# EAGLE library part 61303611121 (library Wurth_Elektronik_Electromechanic_Board_to_Board_Connectors_rev16a)
WR_PHD 2.54mm Pin Header, 36 Pins =>Code : Con_BTB_PHD_2.54_1_THT_61303611121 <http://katalog.we-online.de/media/images/eican/Con_BTB_PHD_2.54_1_THT_6130xx11121_pf2.jpg> Details see: http://katalog.we-online.de/en/em/613_0xx_111_21 Created 2014-05-29, Karrer Zheng 2014 (C) Würth Elektronik
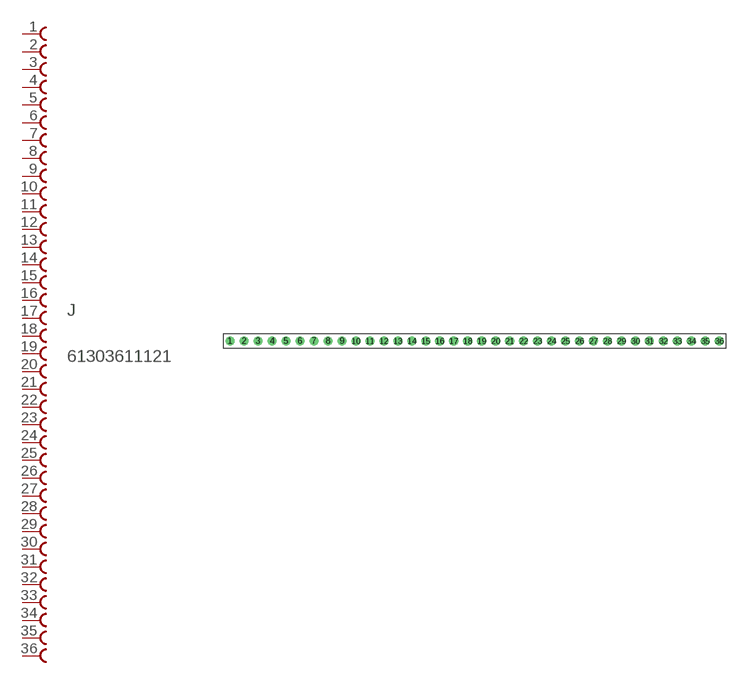
[diagram p15: symbol with the pads of 61303611121; footprint 61303611121]

Designator prefix J

## 61303611121  [61303611121]
1  1  pas
2  2  pas
3  3  pas
4  4  pas
5  5  pas
6  6  pas
7  7  pas
8  8  pas
9  9  pas
10  10  pas
11  11  pas
12  12  pas
13  13  pas
14  14  pas
15  15  pas
16  16  pas
17  17  pas
18  18  pas
19  19  pas
20  20  pas
21  21  pas
22  22  pas
23  23  pas
24  24  pas
25  25  pas
26  26  pas
27  27  pas
28  28  pas
29  29  pas
30  30  pas
31  31  pas
32  32  pas
33  33  pas
34  34  pas
35  35  pas
36  36  pas

## Footprint 61303611121 (pad centres in mm)
WR-PHD 2.54mm Pin Header, 36 Pins
drill 1.1: 1 -44.45,0; 2 -41.91,0; 3 -39.37,0; 4 -36.83,0; 5 -34.29,0; 6 -31.75,0; 7 -29.21,0; 8 -26.67,0; 9 -24.13,0; 10 -21.59,0; 11 -19.05,0; 12 -16.51,0; 13 -13.97,0; 14 -11.43,0; 15 -8.89,0; 16 -6.35,0; 17 -3.81,0; 18 -1.27,0; 19 1.27,0; 20 3.81,0; 21 6.35,0; 22 8.89,0; 23 11.43,0; 24 13.97,0; 25 16.51,0; 26 19.05,0; 27 21.59,0; 28 24.13,0; 29 26.67,0; 30 29.21,0; 31 31.75,0; 32 34.29,0; 33 36.83,0; 34 39.37,0; 35 41.91,0; 36 44.45,0